# Altium schematic symbol library Regulator_SwitchedCapacitor.SchLib: 28 symbols
Pins are listed as number, name and electrical type; pins without a type are passive.

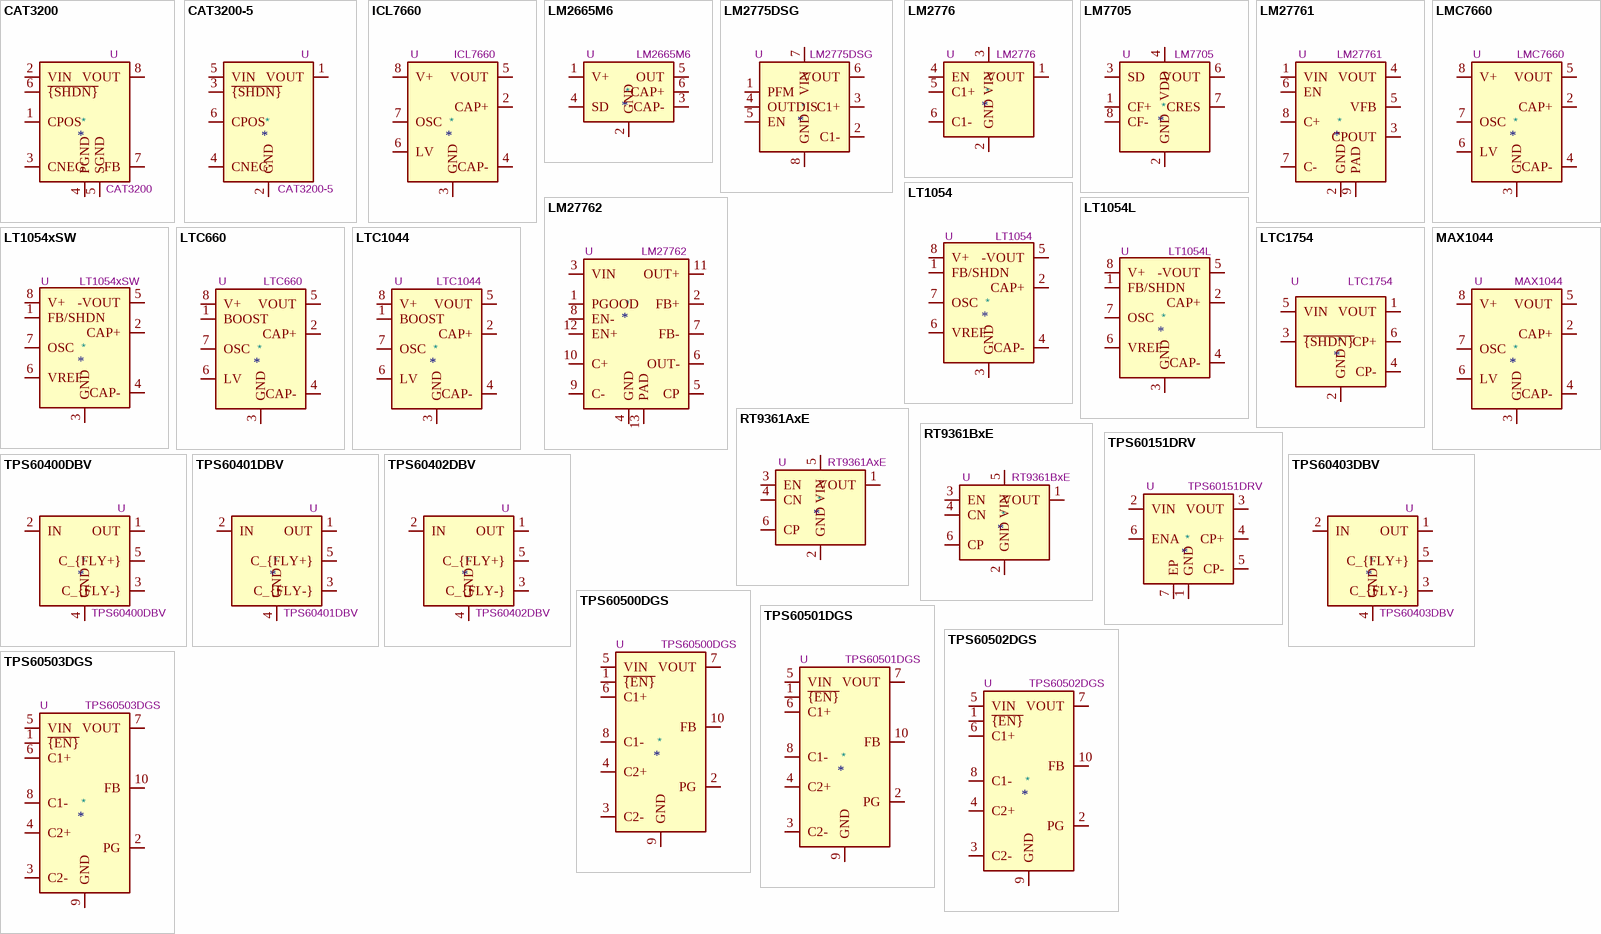
[diagram p0: symbols CAT3200 to TPS60503DGS]

## CAT3200
designator *  value CAT3200  Reference: U
ki_keywords: switched capacitor charge pump; ki_description: Low Noise Regulated Charge Pump DC-DC Converter, 100 mA, MSOP-8; ki_fp_filters: MSOP*; Footprint: Package_SO:MSOP-8_3x3mm_P0.65mm; Datasheet: https://www.onsemi.com/pdf/datasheet/cat3200-d.pdf
pins: 1 CPOS, 2 VIN, 3 CNEG, 4 PGND, 5 SGND, 6 ~{{SHDN}}, 7 FB, 8 VOUT

## CAT3200-5
designator *  value CAT3200-5  Reference: U
ki_keywords: switched capacitor charge pump; ki_description: Low Noise Regulated Charge Pump DC-DC Converter, 5 V, 100 mA, SOT-23-6; ki_fp_filters: SOT?23*; Footprint: Package_TO_SOT_SMD:SOT-23-6; Datasheet: https://www.onsemi.com/pdf/datasheet/cat3200-d.pdf
pins: 1 VOUT, 2 GND, 3 ~{{SHDN}}, 4 CNEG, 5 VIN, 6 CPOS

## ICL7660
designator *  value ICL7660  Reference: U
ki_keywords: monolithic CMOS switched capacitor voltage converter invert double divide multiply; ki_description: Switched-Capacitor Voltage Converter, 1.5V to 10.0V operating supply voltage, 10mA with a 0.5V output drop, SO-8/DIP-8/µMAX-8/TO-99; ki_fp_filters: DIP*W7.62mm* SOIC*3.9x4.9mm* MSOP*3x3mm*P0.65mm* TO?99*; Datasheet: http://datasheets.maximintegrated.com/en/ds/ICL7660-MAX1044.pdf
pins: 1 NC hidden, 2 CAP+, 3 GND, 4 CAP-, 5 VOUT, 6 LV, 7 OSC, 8 V+

## LM2665M6
designator *  value LM2665M6  Reference: U
ki_keywords: switched capacitor voltage converter doubler splitter; ki_description: Switched Capacitor Voltage Converter, Doubles or Splits Input Supply Voltage (2.5 V to 5.5 V or 1.8 V to 11 V), 40 mA, SOT-23-6; ki_fp_filters: SOT?23*; Footprint: Package_TO_SOT_SMD:SOT-23-6; Datasheet: https://www.ti.com/lit/ds/symlink/lm2665.pdf
pins: 1 V+, 2 GND, 3 CAP-, 4 SD, 5 OUT, 6 CAP+

## LM2775DSG
designator *  value LM2775DSG  Reference: U
ki_keywords: Charge pump inductorless; ki_description: 5V charge pump, 200mA, WSON-8; ki_fp_filters: WSON*1EP*2x2mm*P0.5mm*; Footprint: Package_SON:WSON-8-1EP_2x2mm_P0.5mm_EP0.9x1.6mm_ThermalVias; Datasheet: https://www.ti.com/lit/gpn/lm2775
pins: 1 PFM, 2 C1-, 3 C1+, 4 OUTDIS, 5 EN, 6 VOUT, 7 VIN, 8 GND, 9 GND hidden

## LM2776
designator *  value LM2776  Reference: U
ki_keywords: Switched capacitor inverter; ki_description: Switched capacitor inverter, inverts positive voltage +2.7 to +5.5V to negative, 200mA, SOT-23-6; ki_fp_filters: SOT?23*; Footprint: Package_TO_SOT_SMD:SOT-23-6; Datasheet: http://www.ti.com/lit/ds/symlink/lm2776.pdf
pins: 1 VOUT, 2 GND, 3 VIN, 4 EN, 5 C1+, 6 C1-

## LM7705
designator *  value LM7705  Reference: U
ki_keywords: switched capacitor voltage converter inverter negative bias regulator; ki_description: Negative bias generator, low-noise, 3-5.25V input, -0.232V fixed output, VSSOP-8; ki_fp_filters: VSSOP*3.0x3.0mm*P0.65mm*; Footprint: Package_SO:VSSOP-8_3.0x3.0mm_P0.65mm; Datasheet: http://www.ti.com/lit/ds/symlink/lm7705.pdf
pins: 1 CF+, 2 GND, 3 SD, 4 VDD, 5 GND hidden, 6 VOUT, 7 CRES, 8 CF-

## LM27761
designator *  value LM27761  Reference: U
ki_keywords: low-noise switched capacitor voltage converter invert; ki_description: low-noise regulated switched-capacitor voltage inverter with 2.7V-5.5V input to -1.5 to -5V Output Voltage, WSON-8; ki_fp_filters: WSON*1EP?2x2mm*P0.5mm*; Footprint: Package_SON:WSON-8-1EP_2x2mm_P0.5mm_EP0.9x1.6mm; Datasheet: http://www.ti.com/lit/ds/symlink/lm27761.pdf
pins: 1 VIN, 2 GND, 3 CPOUT, 4 VOUT, 5 VFB, 6 EN, 7 C-, 8 C+, 9 PAD

## LM27762
designator *  value LM27762  Reference: U
ki_keywords: Low-noise inverting charge pump with both positive and negative LDO's; ki_description: Low-noise inverting charge pump with both positive and negative LDO's, with 2.7V-5.5V input to +1.5 to +5V and -1.5 to -5V Output Voltage, WSON-12; ki_fp_filters: WSON*1EP?3x2mm*P0.5mm*ThermalVias*; Footprint: Package_SON:WSON-12-1EP_3x2mm_P0.5mm_EP1x2.65_ThermalVias; Datasheet: http://www.ti.com/lit/ds/symlink/lm27762.pdf
pins: 1 PGOOD, 2 FB+, 3 VIN, 4 GND, 5 CP, 6 OUT-, 7 FB-, 8 EN-, 9 C-, 10 C+, 11 OUT+, 12 EN+, 13 PAD

## LMC7660
designator *  value LMC7660  Reference: U
ki_keywords: Voltage converter; ki_description: Voltage converter from +1.5V to +10V to +1.5V to +10V, SO-8/DIP-8; ki_fp_filters: SOIC*3.9x4.9mm*P1.27mm* DIP*W7.62mm*; Datasheet: http://www.ti.com/lit/ds/symlink/lmc7660.pdf
pins: 1 NC hidden, 2 CAP+, 3 GND, 4 CAP-, 5 VOUT, 6 LV, 7 OSC, 8 V+

## LT1054
designator *  value LT1054  Reference: U
ki_keywords: monolithic bipolar switched capacitor voltage converter regulator inverter doubler shutdown; ki_description: Switched-Capacitor Voltage Converter with Regulator, output current 100mA, operating range 3.5V to 15V, low loss 1.1V at 100mA, DIP-8/SO-8; ki_fp_filters: DIP*W7.62mm* SOIC*3.9x4.9mm*; Datasheet: https://www.analog.com/media/en/technical-documentation/data-sheets/1054lfh.pdf
pins: 1 FB/SHDN, 2 CAP+, 3 GND, 4 CAP-, 5 -VOUT, 6 VREF, 7 OSC, 8 V+

## LT1054L
designator *  value LT1054L  Reference: U
ki_keywords: monolithic bipolar switched capacitor voltage converter regulator inverter doubler shutdown; ki_description: Switched-Capacitor Voltage Converter with Regulator, output current 125mA, operating range 3.5V to 15V, low loss 1.1V at 100mA, DIP-8/SO-8; ki_fp_filters: DIP*W7.62mm* SOIC*3.9x4.9mm*; Datasheet: https://www.analog.com/media/en/technical-documentation/data-sheets/1054lfh.pdf
pins: 1 FB/SHDN, 2 CAP+, 3 GND, 4 CAP-, 5 -VOUT, 6 VREF, 7 OSC, 8 V+

## LT1054xSW
designator *  value LT1054xSW  Reference: U
ki_keywords: monolithic bipolar switched capacitor voltage converter regulator inverter doubler shutdown; ki_description: Switched-Capacitor Voltage Converter with Regulator, output current 100mA, operating range 3.5V to 15V, low loss 1.1V at 100mA, SO-16; ki_fp_filters: SOIC?16W*7.5x10.3mm*P1.27mm*; Footprint: Package_SO:SOIC-16W_7.5x10.3mm_P1.27mm; Datasheet: https://www.analog.com/media/en/technical-documentation/data-sheets/1054lfh.pdf
pins: 1 FB/SHDN, 2 CAP+, 3 GND, 4 CAP-, 5 -VOUT, 6 VREF, 7 OSC, 8 V+

## LTC660
designator *  value LTC660  Reference: U
ki_keywords: monolithic CMOS switched capacitor voltage converter invert double divide multiply boost; ki_description: Monolithic CMOS switched-capacitor from 1.5V to 5.5V up to 100mA, SO-8/DIP-8; ki_fp_filters: DIP*W7.62mm* SOIC*3.9x4.9mm*; Datasheet: https://www.analog.com/media/en/technical-documentation/data-sheets/660fa.pdf
pins: 1 BOOST, 2 CAP+, 3 GND, 4 CAP-, 5 VOUT, 6 LV, 7 OSC, 8 V+

## LTC1044
designator *  value LTC1044  Reference: U
ki_keywords: monolithic CMOS switched capacitor voltage converter invert double divide multiply boost; ki_description: Switched Capacitor Voltage Converter, 1.5V to 9V supply operation, 200uA Max No Load Supply Current at 5V, DIP-8/TO-99; ki_fp_filters: DIP*W7.62mm* TO?99*; Datasheet: https://www.analog.com/media/en/technical-documentation/data-sheets/lt1044.pdf
pins: 1 BOOST, 2 CAP+, 3 GND, 4 CAP-, 5 VOUT, 6 LV, 7 OSC, 8 V+

## LTC1754
designator *  value LTC1754  Reference: U
ki_keywords: charge pump; ki_description: 40mA charge-pump, SOT-23-6; ki_fp_filters: SOT?23*; Footprint: Package_TO_SOT_SMD:SOT-23-6; Datasheet: https://www.analog.com/media/en/technical-documentation/data-sheets/175435f.pdf
pins: 1 VOUT, 2 GND, 3 ~{{SHDN}}, 4 CP-, 5 VIN, 6 CP+

## MAX1044
designator *  value MAX1044  Reference: U
ki_keywords: monolithic CMOS switched capacitor voltage converter invert double divide multiply boost; ki_description: Switched-Capacitor Voltage Converter, 1.5V to 10.0V operating supply voltage, 10mA with a 0.5V output drop, SO-8/DIP-8/µMAX-8/TO-99; ki_fp_filters: DIP*W7.62mm* SOIC*3.9x4.9mm* MSOP*3x3mm*P0.65mm* TO?99*; Datasheet: http://datasheets.maximintegrated.com/en/ds/ICL7660-MAX1044.pdf
pins: 1 NC hidden, 2 CAP+, 3 GND, 4 CAP-, 5 VOUT, 6 LV, 7 OSC, 8 V+

## RT9361AxE
designator *  value RT9361AxE  Reference: U
ki_keywords: Switched capacitor boost; ki_description: Switched capacitor boost, Fixed 5V output, 110mA, SOT-23-6; ki_fp_filters: SOT?23*; Footprint: Package_TO_SOT_SMD:SOT-23-6; Datasheet: https://www.richtek.com/assets/product_file/RT9361A=RT9361B/DS9361AB-14.pdf
pins: 1 VOUT, 2 GND, 3 EN, 4 CN, 5 VIN, 6 CP

## RT9361BxE
designator *  value RT9361BxE  Reference: U
ki_keywords: Switched capacitor boost; ki_description: Switched capacitor boost, Fixed 4.5V output, 150mA, SOT-23-6; ki_fp_filters: SOT?23*; Footprint: Package_TO_SOT_SMD:SOT-23-6; Datasheet: https://www.richtek.com/assets/product_file/RT9361A=RT9361B/DS9361AB-14.pdf
pins: 1 VOUT, 2 GND, 3 EN, 4 CN, 5 VIN, 6 CP

## TPS60151DRV
designator *  value TPS60151DRV  Reference: U
ki_keywords: charge pump; ki_description: 5V, 140mA charge-pump, WSON-6; ki_fp_filters: WSON*1EP*2x2mm*P0.65mm*; Footprint: Package_SON:WSON-6-1EP_2x2mm_P0.65mm_EP1x1.6mm_ThermalVias; Datasheet: https://www.ti.com/lit/ds/symlink/tps60151.pdf
pins: 1 GND, 2 VIN, 3 VOUT, 4 CP+, 5 CP-, 6 ENA, 7 EP

## TPS60400DBV
designator *  value TPS60400DBV  Reference: U
ki_keywords: unregulated charge pump inverter variable switching frequency; ki_description: Unregulated 60-mA Charge Pump Voltage Inverter with Variable Switching Frequency 50 kHz - 250 kHz, SOT-23-5; ki_fp_filters: SOT?23*; Footprint: Package_TO_SOT_SMD:SOT-23-5; Datasheet: https://www.ti.com/lit/ds/symlink/tps60400.pdf
pins: 1 OUT, 2 IN, 3 C_{FLY-}, 4 GND, 5 C_{FLY+}

## TPS60401DBV
designator *  value TPS60401DBV  Reference: U
ki_keywords: unregulated charge pump inverter fixed switching frequency; ki_description: Unregulated 60-mA Charge Pump Voltage Inverter with Fixed Switching Frequency 20 kHz, SOT-23-5; ki_fp_filters: SOT?23*; Footprint: Package_TO_SOT_SMD:SOT-23-5; Datasheet: https://www.ti.com/lit/ds/symlink/tps60401.pdf
pins: 1 OUT, 2 IN, 3 C_{FLY-}, 4 GND, 5 C_{FLY+}

## TPS60402DBV
designator *  value TPS60402DBV  Reference: U
ki_keywords: unregulated charge pump inverter fixed switching frequency; ki_description: Unregulated 60-mA Charge Pump Voltage Inverter with Fixed Switching Frequency 50 kHz, SOT-23-5; ki_fp_filters: SOT?23*; Footprint: Package_TO_SOT_SMD:SOT-23-5; Datasheet: https://www.ti.com/lit/ds/symlink/tps60401.pdf
pins: 1 OUT, 2 IN, 3 C_{FLY-}, 4 GND, 5 C_{FLY+}

## TPS60403DBV
designator *  value TPS60403DBV  Reference: U
ki_keywords: unregulated charge pump inverter fixed switching frequency; ki_description: Unregulated 60-mA Charge Pump Voltage Inverter with Fixed Switching Frequency 250 kHz, SOT-23-5; ki_fp_filters: SOT?23*; Footprint: Package_TO_SOT_SMD:SOT-23-5; Datasheet: https://www.ti.com/lit/ds/symlink/tps60401.pdf
pins: 1 OUT, 2 IN, 3 C_{FLY-}, 4 GND, 5 C_{FLY+}

## TPS60500DGS
designator *  value TPS60500DGS  Reference: U
ki_keywords: Regulator Step-Down Charge Pump TPS Texas Instruments Ti; ki_description: 250mA High-Efficiency Step-Down Charge Pump Regulator, Adjustable Output Voltage, MSOP-10; ki_fp_filters: MSOP*3x3mm*P0.5mm*; Footprint: Package_SO:MSOP-10_3x3mm_P0.5mm; Datasheet: http://www.ti.com/lit/ds/symlink/tps60503.pdf
pins: 1 ~{{EN}}, 2 PG, 3 C2-, 4 C2+, 5 VIN, 6 C1+, 7 VOUT, 8 C1-, 9 GND, 10 FB

## TPS60501DGS
designator *  value TPS60501DGS  Reference: U
ki_keywords: Regulator Step-Down Charge Pump TPS Texas Instruments Ti; ki_description: 250mA High-Efficiency Step-Down Charge Pump Regulator, 3.3V Output Voltage, MSOP-10; ki_fp_filters: MSOP*3x3mm*P0.5mm*; Footprint: Package_SO:MSOP-10_3x3mm_P0.5mm; Datasheet: http://www.ti.com/lit/ds/symlink/tps60503.pdf
pins: 1 ~{{EN}}, 2 PG, 3 C2-, 4 C2+, 5 VIN, 6 C1+, 7 VOUT, 8 C1-, 9 GND, 10 FB

## TPS60502DGS
designator *  value TPS60502DGS  Reference: U
ki_keywords: Regulator Step-Down Charge Pump TPS Texas Instruments Ti; ki_description: 250mA High-Efficiency Step-Down Charge Pump Regulator, 1.8V Output Voltage, MSOP-10; ki_fp_filters: MSOP*3x3mm*P0.5mm*; Footprint: Package_SO:MSOP-10_3x3mm_P0.5mm; Datasheet: http://www.ti.com/lit/ds/symlink/tps60503.pdf
pins: 1 ~{{EN}}, 2 PG, 3 C2-, 4 C2+, 5 VIN, 6 C1+, 7 VOUT, 8 C1-, 9 GND, 10 FB

## TPS60503DGS
designator *  value TPS60503DGS  Reference: U
ki_keywords: Regulator Step-Down Charge Pump TPS Texas Instruments Ti; ki_description: 250mA High-Efficiency Step-Down Charge Pump Regulator, 1.5V Output Voltage, MSOP-10; ki_fp_filters: MSOP*3x3mm*P0.5mm*; Footprint: Package_SO:MSOP-10_3x3mm_P0.5mm; Datasheet: http://www.ti.com/lit/ds/symlink/tps60503.pdf
pins: 1 ~{{EN}}, 2 PG, 3 C2-, 4 C2+, 5 VIN, 6 C1+, 7 VOUT, 8 C1-, 9 GND, 10 FB